# EAGLE library part IR2101 (library SnapEDA-Library)
High and low side driver
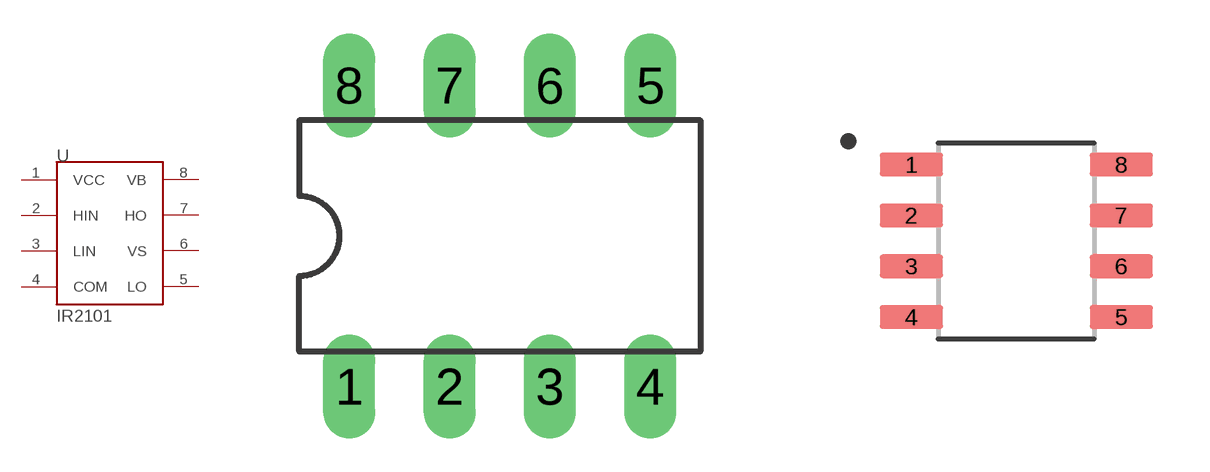
[diagram p0: symbol with the pads of DIL08; footprints DIL08, SOIC127P490X600X175-8N]

Designator prefix U

## IR2101  [DIL08]
1  VCC  sup
2  HIN  in
3  LIN  in
4  COM  sup
5  LO  out
6  VS  out
7  HO  out
8  VB  sup

## IR2101SOIC-8  [SOIC127P490X600X175-8N]
Pads as for DIL08

## Footprint DIL08 (pad centres in mm)
Dual In Line Package
drill 0.813 long: 1 -3.81,-3.81; 2 -1.27,-3.81; 3 1.27,-3.81; 4 3.81,-3.81; 5 3.81,3.81; 6 1.27,3.81; 7 -1.27,3.81; 8 -3.81,3.81

## Footprint SOIC127P490X600X175-8N (pad centres in mm)
smd 1.58 x 0.59: 1 -2.625,1.905; 2 -2.625,0.635; 3 -2.625,-0.635; 4 -2.625,-1.905; 5 2.625,-1.905; 6 2.625,-0.635; 7 2.625,0.635; 8 2.625,1.905